# Altium schematic symbol library kasp_komut_lib.SchLib: 8 symbols
Pins are listed as number, name and electrical type; pins without a type are passive.

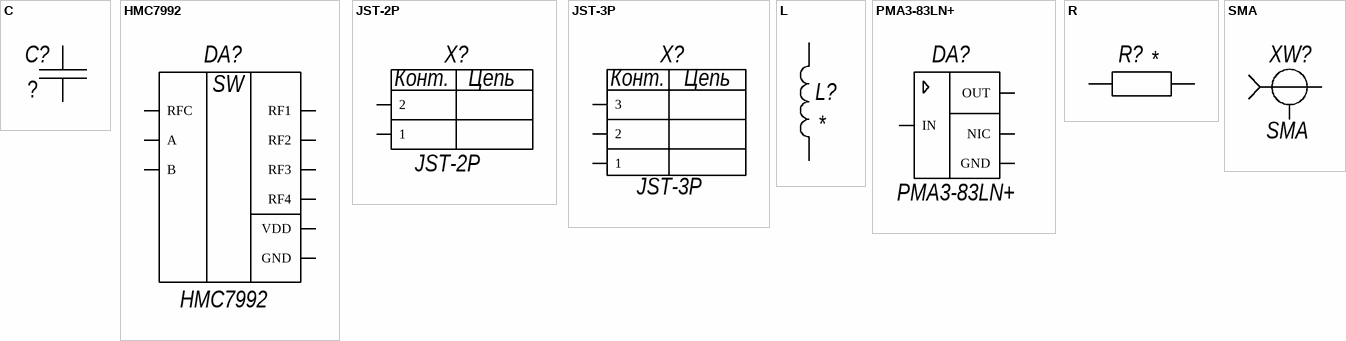
[diagram p0: symbols C to SMA]

## C
designator C?, comment ?
Value: *; Part_number: *; Tolerance: *; VDC: *; Dielectric: *; Manufacturer: *; Package: *
footprint CAPC2012X10N - duplicate (Chip Capacitor, 2-Leads, Body 2,05x1,20mm, IPC Medium Density)
footprint FP-GJM155-0_05-IPC_A
footprint FP-C0402-parallel-coplanar
pins: 1 3, 2 4

## HMC7992
designator DA?
Value: *; Part_number: *
footprint FP-CP-16-38-IPC_A
pins: 1 RF4, 2, 3, 5, 10, 11, 13, 14, 16, 17 GND, 4 RF3, 6 VDD, 7 B, 8 A, 9 RF2, 12 RF1, 15 RFC
text: SW

## JST-2P
designator X?
JST type connector; Value: *; Part_number: *
footprint FP-S2B-XH-A-1_LF_SN-MFG
pins: 1, 2
text: Конт.; Цепь

## JST-3P
designator X?
JST type connector; Value: *; Part_number: *
footprint FP-S3B-XH-A-1_LF_SN-MFG
pins: 1, 2, 3
text: Конт.; Цепь

## L
designator L?
Value: *; Part_number: *; Tolerance: *; VDC: *; Dielectric: *; Manufacturer: *; Package: *
footprint FP-0402HP-MFG
pins: 1 5, 2 5

## PMA3-83LN+
designator DA?
Value: *; Part_number: *
footprint FP-DQ1225-IPC_A
pins: 1,3,4,5,6,7,9,10 NIC (oe), 2 IN, 8 OUT, 13 GND

## R
designator R?
Value: *; Part_number: *; Tolerance: *; VDC: *; Dielectric: *; Manufacturer: *; Package: *
footprint RES0805 (Chip Resistor, 2-Leads, Body 2.1x1.35mm, IPC Low Density)
footprint FP-CR0402-IPC_A
footprint FP-CR0402-IPC_A-parallel-coplanar
pins: 1, 2

## SMA
designator XW?
Value: *; Part_number: *
footprint S-P2152-19CQA
pins: 1, 2